# EAGLE library part AD623 (library Traficon)
Single Supply, Rail-to-Rail, Low Cost Instrumentation Amplifier
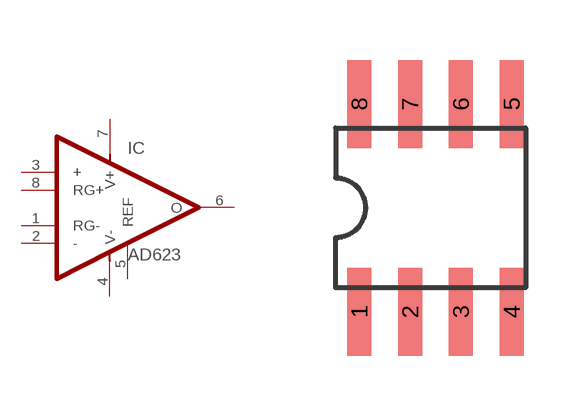
[diagram p111: symbol with the pads of SOIC8; footprint SOIC8]

Designator prefix IC

## AD623AR  [SOIC8]
1  RG-
2  -
3  +
4  V-
5  REF
6  O
7  V+
8  RG+

## Footprint SOIC8 (pad centres in mm)
Small Outline IC
smd 0.6 x 2.2: 1 -1.905,-2.6; 2 -0.635,-2.6; 3 0.635,-2.6; 4 1.905,-2.6; 5 1.905,2.6; 6 0.635,2.6; 7 -0.635,2.6; 8 -1.905,2.6